# Altium footprint library Generic-Footprint-Library.PcbLib: 11 footprints
Each footprint in its own frame and in the unit in brackets; x right, y up, seen from the top. Pads: shape width x height; smd on the part's side, far side on the other; paste and mask are expansions set on the pad; w line width, h text height; cw(c..) or ccw(c..) is an arc to the next point about the centre after c.
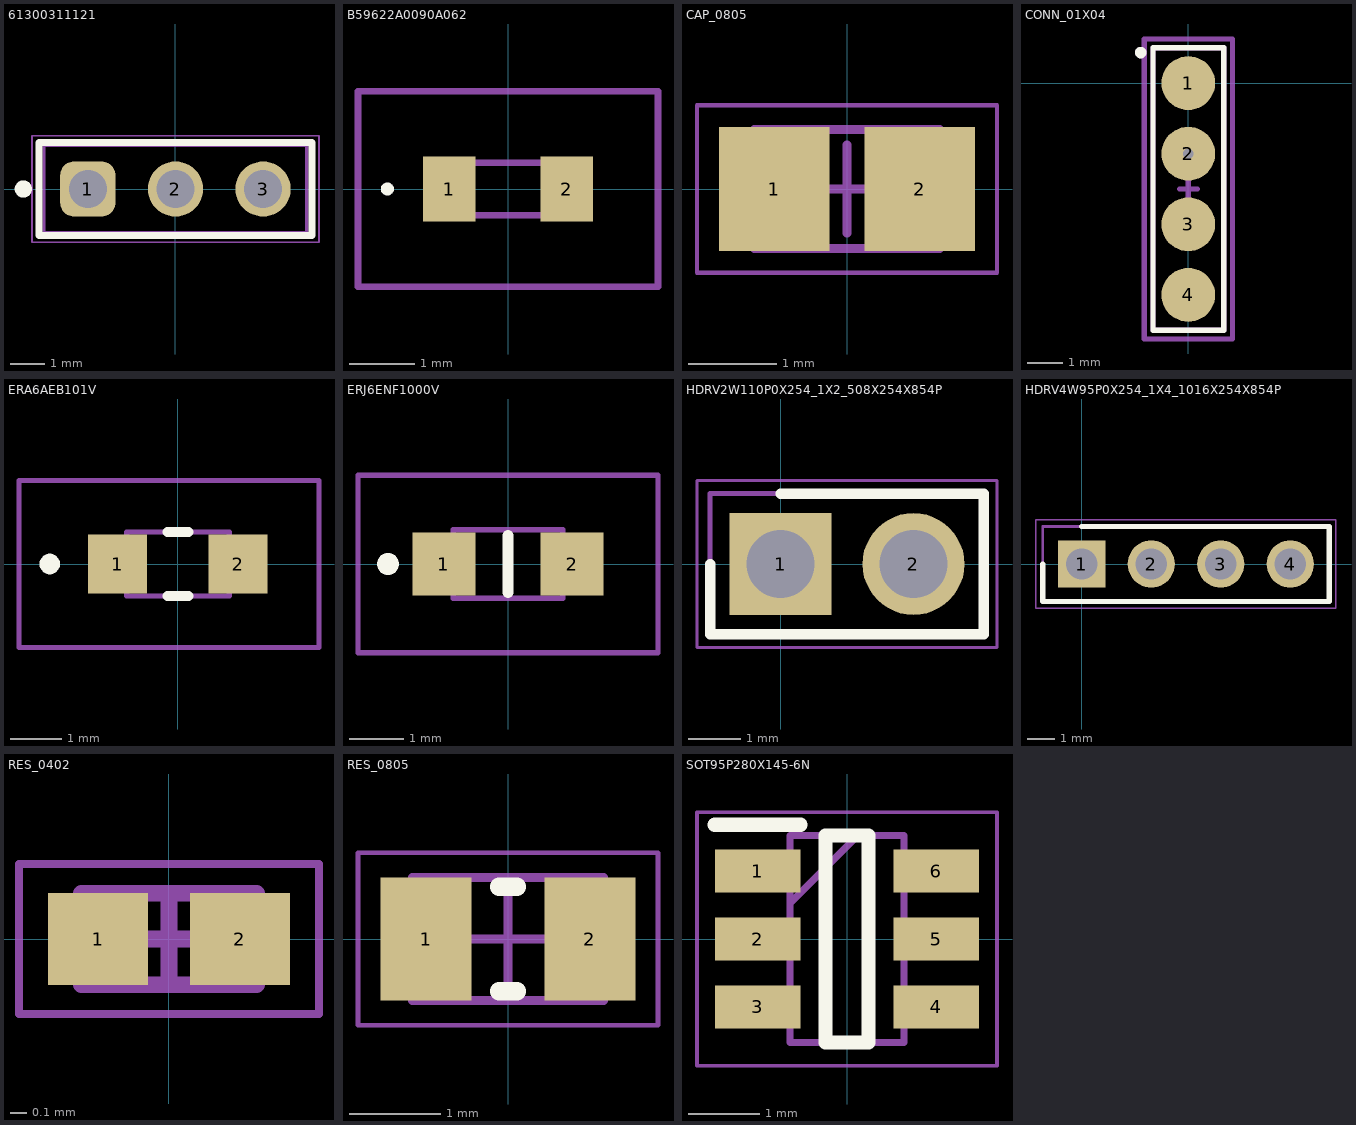
[diagram p0: the footprints below, top view; thin cyan lines are the x and y axes]

## 61300311121 [mm] "Pin Header, pitch 2.54 mm, THT, Vertical, single row, 3p"
height 8.54
pads (3):
  rrect50% 1.6x1.6 hole 1.1: 1(-2.54,0)
  round 1.6 hole 1.1: 2(0,0) 3(2.54,0)
Top Overlay:
  circle w0.25: c-4.41,0 r0.125
  lines w0.2: -3.96,-1.345 -3.96,1.345 3.96,1.345 3.96,-1.345 -3.96,-1.345
Top Courtyard:
  lines w0.05: -4.16,-1.545 4.16,-1.545 4.16,1.545 -4.16,1.545 -4.16,-1.545
Top Designator:
  text ".Designator" at -7.498,-0.5 h1.5
Top Component Outline:
  lines w0.1: -3.81,-1.27 3.81,-1.27 3.81,1.27 -3.81,1.27 -3.81,-1.27
Top Component Center:
  lines w0.05: -0.5,0 0.5,0 ; 0,-0.5 0,0.5
3D body "61300311121.stp": height 8.57, standoff -2.97, extent -3.81,-1.27 3.81,1.27

## B59622A0090A062 [mm]
pads (2):
  rect 0.8x1 smd: 1(-0.9,0) 2(0.9,0)
Top Overlay:
  lines w0.1: -1.9,0 ccw(c-1.85,0) -1.8,0 ccw(c-1.85,0) -1.9,0
Mechanical 13:
  lines w0.1: -0.8,-0.4 -0.8,0.4 0.8,0.4 0.8,-0.4 -0.8,-0.4
Mechanical 15:
  lines w0.1: -2.3,-1.5 -2.3,1.5 2.3,1.5 2.3,-1.5 -2.3,-1.5
3D body "B59622A0090A062.stp": height 0.81, standoff 0, extent -0.82,-0.365 0.78,0.445

## CAP_0805 [mm] "Chip Capacitor, 2-Leads, Body 2.00x1.25mm, IPC Medium Density"
height 1.35
pads (2):
  rect 1.25x1.4 smd: 1(-0.825,0) 2(0.825,0)
Mechanical 13:
  lines w0.1: -1.05,-0.675 -1.05,0.675 1.05,0.675 1.05,-0.675 -1.05,-0.675
Mechanical 15:
  lines w0.05: -1.7,-0.95 -1.7,0.95 1.7,0.95 1.7,-0.95 -1.7,-0.95
  lines w0.1: -0.5,0 0.5,0 ; 0,-0.5 0,0.5
3D body "CAP_0805.step": height 1.35, standoff 0, extent -1.05,-0.675 1.05,0.675

## CONN_01X04 [mil]
pads (4):
  round 60 smd: 1(0,0) 3(0,-157.48) 4(0,-236.22)
  round 60 hole 11.81: 2(0,-78.74)
Top Overlay:
  circle w10: c-53,34 r1.37
  lines w5.91: -39.37,-275.59 -39.37,39.37 39.37,39.37 39.37,-275.59 -39.37,-275.59
Top Courtyard:
  lines w5.91: -49.21,-285.43 -49.21,49.21 49.21,49.21 49.21,-285.43 -49.21,-285.43
Top Assembly:
  circle w10: c-53,34 r1.37
  lines w5.91: -39.37,-275.59 -39.37,39.37 ; -39.37,-275.59 39.37,-275.59 39.37,39.37 -39.37,39.37 ; -39.37,-275.59 -39.37,39.37
Top Component Center:
  lines w5.91: -9.84,-118.11 9.84,-118.11 ; 0,-127.95 0,-108.27

## ERA6AEB101V [mm]
pads (2):
  rect 1.15x1.15 smd: 1(-1.175,0) 2(1.175,0)
Top Overlay:
  lines w0.2: -0.2,-0.625 0.2,-0.625 ; -0.2,0.625 0.2,0.625 ; -2.5,-0.1 ccw(c-2.5,0) -2.5,0.1 ccw(c-2.5,0) -2.5,-0.1
Mechanical 13:
  lines w0.1: -1,-0.625 -1,0.625 1,0.625 1,-0.625 -1,-0.625
Mechanical 15:
  lines w0.1: -3.1,-1.625 -3.1,1.625 2.75,1.625 2.75,-1.625 -3.1,-1.625
3D body "ERA6AEB204V.stp": height 0.5, standoff 0, extent -1,-0.625 1,0.625

## ERJ6ENF1000V [mm]
pads (2):
  rect 1.15x1.15 smd: 1(-1.175,0) 2(1.175,0)
Top Overlay:
  lines w0.2: 0,-0.525 0,0.525 ; -2.2,-0.1 cw(c-2.2,0) -2.2,0.1 cw(c-2.2,0) -2.2,-0.1
Mechanical 13:
  lines w0.1: -1,-0.625 1,-0.625 1,0.625 -1,0.625 -1,-0.625
Mechanical 15:
  lines w0.1: -2.75,-1.625 2.75,-1.625 2.75,1.625 -2.75,1.625 -2.75,-1.625
3D body "ERJ-6ENF1003V.stp": height 0.6, standoff 0, extent -1,-0.625 1,0.625

## HDRV2W110P0X254_1X2_508X254X854P [mm]
pads (2):
  rect 1.95x1.95 hole 1.3: 1(0,0)
  round 1.95 hole 1.3: 2(2.54,0)
Top Overlay:
  lines w0.2: -1.345,0 -1.345,-1.345 3.885,-1.345 3.885,1.345 0,1.345
Mechanical 13:
  lines w0.1: -1.345,-1.345 -1.345,1.345 3.885,1.345 3.885,-1.345 -1.345,-1.345
Mechanical 15:
  lines w0.05: -1.595,-1.595 -1.595,1.595 4.135,1.595 4.135,-1.595 -1.595,-1.595
3D body "61300211121.stp": height 8.54, standoff -3.15, extent -1.27,-1.27 3.81,1.27

## HDRV4W95P0X254_1X4_1016X254X854P [mm]
pads (4):
  rect 1.725x1.725 hole 1.15: 1(0,0)
  round 1.725 hole 1.15: 2(2.54,0) 3(5.08,0) 4(7.62,0)
Top Overlay:
  lines w0.2: -1.42,0 -1.42,-1.37 9.04,-1.37 9.04,1.37 0,1.37
Mechanical 13:
  lines w0.1: -1.42,-1.37 -1.42,1.37 9.04,1.37 9.04,-1.37 -1.42,-1.37
Mechanical 15:
  lines w0.05: -1.67,-1.62 -1.67,1.62 9.29,1.62 9.29,-1.62 -1.67,-1.62
3D body "61300411121.stp": height 8.54, standoff -3.2, extent -1.27,-1.27 8.89,1.27

## RES_0402 [mm] "Chip Resistor, 2-Leads, Body 1.00x0.50mm, IPC Medium Density"
height 0.4
pads (2):
  rect 0.6x0.55 smd: 1(-0.425,0) 2(0.425,0)
Mechanical 13:
  lines w0.1: -0.525,-0.275 -0.525,0.275 0.525,0.275 0.525,-0.275 -0.525,-0.275
Mechanical 15:
  lines w0.05: -0.9,-0.45 -0.9,0.45 0.9,0.45 0.9,-0.45 -0.9,-0.45
  lines w0.1: -0.275,0 0.275,0 ; 0,-0.275 0,0.275
3D body "RES_0402.step": height 0.4, standoff 0, extent -0.525,-0.275 0.525,0.275

## RES_0805 [mm] "Chip Resistor, 2-Leads, Body 2.00x1.25mm, IPC Medium Density"
height 0.6
pads (2):
  rect 1x1.35 smd: 1(-0.9,0) 2(0.9,0)
Top Overlay:
  lines w0.2: -0.1,-0.575 0.1,-0.575 ; -0.1,0.575 0.1,0.575
Mechanical 13:
  lines w0.1: -1.05,-0.675 -1.05,0.675 1.05,0.675 1.05,-0.675 -1.05,-0.675
Mechanical 15:
  lines w0.05: -1.65,-0.95 -1.65,0.95 1.65,0.95 1.65,-0.95 -1.65,-0.95
  lines w0.1: -0.5,0 0.5,0 ; 0,-0.5 0,0.5
3D body "RES_0805.step": height 0.6, standoff 0, extent -1.05,-0.675 1.05,0.675

## SOT95P280X145-6N [mm]
pads (6):
  rect 1.2x0.6 smd: 1(-1.25,0.95) 2(-1.25,0) 3(-1.25,-0.95) 4(1.25,-0.95) 5(1.25,0) 6(1.25,0.95)
Top Overlay:
  lines w0.2: -1.85,1.6 -0.65,1.6 ; -0.3,-1.45 -0.3,1.45 0.3,1.45 0.3,-1.45 -0.3,-1.45
Mechanical 13:
  lines w0.1: -0.8,0.5 0.15,1.45 ; -0.8,-1.45 -0.8,1.45 0.8,1.45 0.8,-1.45 -0.8,-1.45
Mechanical 15:
  lines w0.05: -2.1,-1.775 -2.1,1.775 2.1,1.775 2.1,-1.775 -2.1,-1.775
3D body "TLV9061SQDBVRQ1.stp": height 1.2, standoff 0, extent -1.4,-1.45 1.4,1.45